# Altium footprint library IR2101SPBF.PcbLib: 3 footprints
Each footprint in its own frame and in the unit in brackets; x right, y up, seen from the top. Pads: shape width x height; smd on the part's side, far side on the other; paste and mask are expansions set on the pad; w line width, h text height; cw(c..) or ccw(c..) is an arc to the next point about the centre after c.
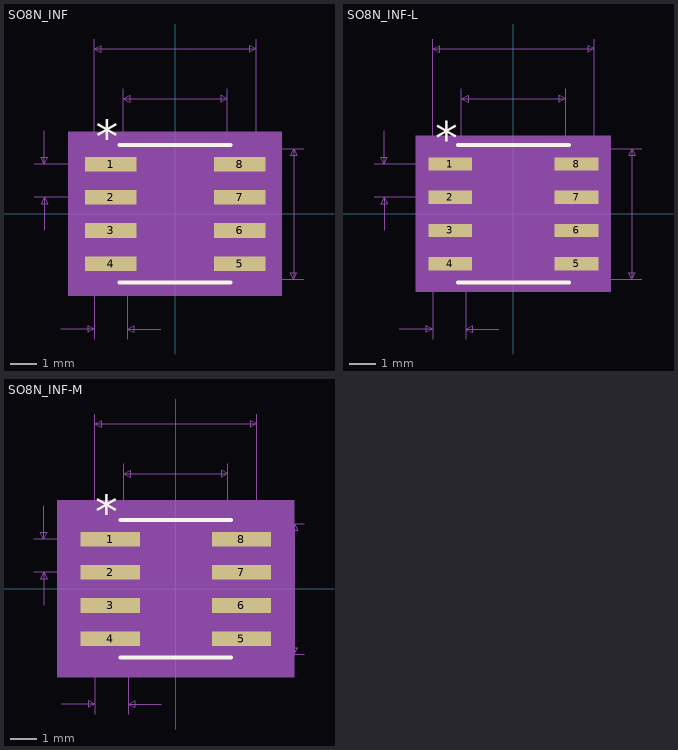
[diagram p0: the footprints below, top view; thin cyan lines are the x and y axes]

## SO8N_INF [mil]
pads (8):
  rect 77.56x21.97 smd paste+0 mask+0: 1(-97,75) 2(-97,25) 3(-97,-25) 4(-97,-75) 5(97,-75) 6(97,-25) 7(97,25) 8(97,75)
Top Overlay:
  lines w6: -83.5,-103.5 83.5,-103.5 ; -83.5,103.5 83.5,103.5
  text "*" at -119.5,91.97 h50
Mechanical 5:
  region: 160.78,-123.5 -160.78,-123.5 -160.78,123.5 160.78,123.5
Mechanical 7:
  lines w1: -212,25 -97,25 ; -212,75 -97,75 ; -197,-25 -197,25 ; -197,125 -197,75 ; -172,-173.5 -122,-173.5 ; -122,-188.5 -122,0 -122,263.5 ; -78.5,0 -78.5,188.5 ; -72,-188.5 -72,0 ; -22,-173.5 -72,-173.5 ; 0,-98.5 193.5,-98.5 ; 0,98.5 193.5,98.5 ; 78.5,0 78.5,188.5 ; 122,0 122,263.5 ; -197,25 -202,15 -192,15 -197,25 ; -197,75 -202,85 -192,85 -197,75 ; -122,-173.5 -132,-168.5 -132,-178.5 -122,-173.5 ; -122,248.5 122,248.5 ; -122,248.5 -112,253.5 -112,243.5 -122,248.5 ; -78.5,173.5 78.5,173.5 ; -78.5,173.5 -68.5,178.5 -68.5,168.5 -78.5,173.5 ; -72,-173.5 -62,-168.5 -62,-178.5 -72,-173.5 ; 78.5,173.5 68.5,178.5 68.5,168.5 78.5,173.5 ; 122,248.5 112,253.5 112,243.5 122,248.5 ; 178.5,-98.5 178.5,98.5 ; 178.5,-98.5 173.5,-88.5 183.5,-88.5 178.5,-98.5 ; 178.5,98.5 173.5,88.5 183.5,88.5 178.5,98.5
  text "Default Padstyle: r197_56" at -312.5,-298.5 h50
  text "Pin One Padstyle: r197_56" at -312.5,-358.5 h50
  text "Alt 1 Padstyle: b152_229h76" at -337.5,-538.5 h50
  text "Alt 2 Padstyle: b229_152h76" at -337.5,-598.5 h50
  text "0.157in/3.988mm" at -93.75,193.5 h25
  text "0.244in/6.198mm" at -93.75,268.5 h25
  text "0.197in/5.004mm" at 198.5,-12.5 h25
  text "0.05in/1.27mm" at -379.5,37.5 h25
  text "0.05in/1.27mm" at -178.25,-218.5 h25
Mechanical 13:
  lines w0: -12,98.5 ccw(c0,98.5) 12,98.5
  lines w1: -122,-85 -122,-65 -78.5,-65 -78.5,-85 -122,-85 ; -122,-35 -122,-15 -78.5,-15 -78.5,-35 -122,-35 ; -122,15 -122,35 -78.5,35 -78.5,15 -122,15 ; -122,65 -122,85 -78.5,85 -78.5,65 -122,65 ; -78.5,-98.5 78.5,-98.5 78.5,98.5 -78.5,98.5 -78.5,-98.5 ; 78.5,-85 78.5,-65 122,-65 122,-85 78.5,-85 ; 78.5,-35 78.5,-15 122,-15 122,-35 78.5,-35 ; 78.5,15 78.5,35 122,35 122,15 78.5,15 ; 78.5,65 78.5,85 122,85 122,65 78.5,65
  text "*" at -76,45.5 h50
Mechanical 15:
  region: -88.5,-95.98 -145.78,-95.98 -145.78,95.98 -88.5,95.98 -88.5,108.5 88.5,108.5 88.5,95.98 145.78,95.98 145.78,-95.98 88.5,-95.98 88.5,-108.5 -88.5,-108.5
  lines w6: -145.78,-95.98 -145.78,95.98 -88.5,95.98 -88.5,108.5 88.5,108.5 88.5,95.98 145.78,95.98 145.78,-95.98 88.5,-95.98 88.5,-108.5 -88.5,-108.5 -88.5,-95.98 -145.78,-95.98
3D body "SO8N_INF.step": height 69.09, standoff 0, extent -122.01,-98.5 122.01,98.5

## SO8N_INF-L [mil]
pads (8):
  rect 65.75x20 smd paste+0 mask+0: 1(-95.03,75) 2(-95.03,25) 3(-95.03,-25) 4(-95.03,-75) 5(95.03,-75) 6(95.03,-25) 7(95.03,25) 8(95.03,75)
Top Overlay:
  lines w6: -83.5,-103.5 83.5,-103.5 ; -83.5,103.5 83.5,103.5
  text "*" at -117.53,90 h50
Mechanical 5:
  region: 146.91,-117.5 -146.91,-117.5 -146.91,117.5 146.91,117.5
Mechanical 7:
  lines w1: -210.03,25 -95.03,25 ; -210.03,75 -95.03,75 ; -195.03,-25 -195.03,25 ; -195.03,125 -195.03,75 ; -172,-173.5 -122,-173.5 ; -122,-188.5 -122,0 -122,263.5 ; -78.5,0 -78.5,188.5 ; -72,-188.5 -72,0 ; -22,-173.5 -72,-173.5 ; 0,-98.5 193.5,-98.5 ; 0,98.5 193.5,98.5 ; 78.5,0 78.5,188.5 ; 122,0 122,263.5 ; -195.03,25 -200.03,15 -190.03,15 -195.03,25 ; -195.03,75 -200.03,85 -190.03,85 -195.03,75 ; -122,-173.5 -132,-168.5 -132,-178.5 -122,-173.5 ; -122,248.5 122,248.5 ; -122,248.5 -112,253.5 -112,243.5 -122,248.5 ; -78.5,173.5 78.5,173.5 ; -78.5,173.5 -68.5,178.5 -68.5,168.5 -78.5,173.5 ; -72,-173.5 -62,-168.5 -62,-178.5 -72,-173.5 ; 78.5,173.5 68.5,178.5 68.5,168.5 78.5,173.5 ; 122,248.5 112,253.5 112,243.5 122,248.5 ; 178.5,-98.5 178.5,98.5 ; 178.5,-98.5 173.5,-88.5 183.5,-88.5 178.5,-98.5 ; 178.5,98.5 173.5,88.5 183.5,88.5 178.5,98.5
  text "Default Padstyle: r167_51" at -312.5,-298.5 h50
  text "Pin One Padstyle: r167_51" at -312.5,-358.5 h50
  text "Alt 1 Padstyle: b152_229h76" at -337.5,-538.5 h50
  text "Alt 2 Padstyle: b229_152h76" at -337.5,-598.5 h50
  text "0.157in/3.988mm" at -93.75,193.5 h25
  text "0.244in/6.198mm" at -93.75,268.5 h25
  text "0.197in/5.004mm" at 198.5,-12.5 h25
  text "0.05in/1.27mm" at -377.53,37.5 h25
  text "0.05in/1.27mm" at -178.25,-218.5 h25
Mechanical 13:
  lines w0: -12,98.5 ccw(c0,98.5) 12,98.5
  lines w1: -122,-85 -122,-65 -78.5,-65 -78.5,-85 -122,-85 ; -122,-35 -122,-15 -78.5,-15 -78.5,-35 -122,-35 ; -122,15 -122,35 -78.5,35 -78.5,15 -122,15 ; -122,65 -122,85 -78.5,85 -78.5,65 -122,65 ; -78.5,-98.5 78.5,-98.5 78.5,98.5 -78.5,98.5 -78.5,-98.5 ; 78.5,-85 78.5,-65 122,-65 122,-85 78.5,-85 ; 78.5,-35 78.5,-15 122,-15 122,-35 78.5,-35 ; 78.5,15 78.5,35 122,35 122,15 78.5,15 ; 78.5,65 78.5,85 122,85 122,65 78.5,65
  text "*" at -76,45.5 h50
Mechanical 15:
  region: -82.5,-89 -131.91,-89 -131.91,89 -82.5,89 -82.5,102.5 82.5,102.5 82.5,89 131.91,89 131.91,-89 82.5,-89 82.5,-102.5 -82.5,-102.5
  lines w6: -131.91,-89 -131.91,89 -82.5,89 -82.5,102.5 82.5,102.5 82.5,89 131.91,89 131.91,-89 82.5,-89 82.5,-102.5 -82.5,-102.5 -82.5,-89 -131.91,-89
3D body "SO8N_INF.step": height 69.09, standoff 0, extent -122.01,-98.5 122.01,98.5

## SO8N_INF-M [mm]
pads (8):
  rect 2.27x0.558 smd paste+0 mask+0: 1(-2.514,1.905) 2(-2.514,0.635) 3(-2.514,-0.635) 4(-2.514,-1.905) 5(2.514,-1.905) 6(2.514,-0.635) 7(2.514,0.635) 8(2.514,1.905)
Top Overlay:
  lines w0.152: -2.121,-2.629 2.121,-2.629 ; -2.121,2.629 2.121,2.629
  text "*" at -3.085,2.336 h1.27
Mechanical 5:
  region: 4.538,-3.391 -4.538,-3.391 -4.538,3.391 4.538,3.391
Mechanical 7:
  lines w0.025: -5.435,0.635 -2.514,0.635 ; -5.435,1.905 -2.514,1.905 ; -5.054,-0.635 -5.054,0.635 ; -5.054,3.175 -5.054,1.905 ; -4.369,-4.407 -3.099,-4.407 ; -3.099,-4.788 -3.099,0 -3.099,6.693 ; -1.994,0 -1.994,4.788 ; -1.829,-4.788 -1.829,0 ; -0.559,-4.407 -1.829,-4.407 ; 0,-2.502 4.915,-2.502 ; 0,2.502 4.915,2.502 ; 1.994,0 1.994,4.788 ; 3.099,0 3.099,6.693 ; -5.054,0.635 -5.181,0.381 -4.927,0.381 -5.054,0.635 ; -5.054,1.905 -5.181,2.159 -4.927,2.159 -5.054,1.905 ; -3.099,-4.407 -3.353,-4.28 -3.353,-4.534 -3.099,-4.407 ; -3.099,6.312 3.099,6.312 ; -3.099,6.312 -2.845,6.439 -2.845,6.185 -3.099,6.312 ; -1.994,4.407 1.994,4.407 ; -1.994,4.407 -1.74,4.534 -1.74,4.28 -1.994,4.407 ; -1.829,-4.407 -1.575,-4.28 -1.575,-4.534 -1.829,-4.407 ; 1.994,4.407 1.74,4.534 1.74,4.28 1.994,4.407 ; 3.099,6.312 2.845,6.439 2.845,6.185 3.099,6.312 ; 4.534,-2.502 4.534,2.502 ; 4.534,-2.502 4.407,-2.248 4.661,-2.248 4.534,-2.502 ; 4.534,2.502 4.407,2.248 4.661,2.248 4.534,2.502
  text "Default Padstyle: r227_56" at -7.938,-7.582 h1.27
  text "Pin One Padstyle: r227_56" at -7.938,-9.106 h1.27
  text "Alt 1 Padstyle: b152_229h76" at -8.572,-13.678 h1.27
  text "Alt 2 Padstyle: b229_152h76" at -8.572,-15.202 h1.27
  text "0.157in/3.988mm" at -2.381,4.915 h0.64
  text "0.244in/6.198mm" at -2.381,6.82 h0.64
  text "0.197in/5.004mm" at 5.042,-0.318 h0.64
  text "0.05in/1.27mm" at -9.689,0.953 h0.64
  text "0.05in/1.27mm" at -4.528,-5.55 h0.64
Mechanical 13:
  lines w0: -0.305,2.502 ccw(c0,2.502) 0.305,2.502
  lines w0.025: -3.099,-2.159 -3.099,-1.651 -1.994,-1.651 -1.994,-2.159 -3.099,-2.159 ; -3.099,-0.889 -3.099,-0.381 -1.994,-0.381 -1.994,-0.889 -3.099,-0.889 ; -3.099,0.381 -3.099,0.889 -1.994,0.889 -1.994,0.381 -3.099,0.381 ; -3.099,1.651 -3.099,2.159 -1.994,2.159 -1.994,1.651 -3.099,1.651 ; -1.994,-2.502 1.994,-2.502 1.994,2.502 -1.994,2.502 -1.994,-2.502 ; 1.994,-2.159 1.994,-1.651 3.099,-1.651 3.099,-2.159 1.994,-2.159 ; 1.994,-0.889 1.994,-0.381 3.099,-0.381 3.099,-0.889 1.994,-0.889 ; 1.994,0.381 1.994,0.889 3.099,0.889 3.099,0.381 1.994,0.381 ; 1.994,1.651 1.994,2.159 3.099,2.159 3.099,1.651 1.994,1.651
  text "*" at -1.93,1.156 h1.27
Mechanical 15:
  region: -2.502,-2.692 -4.157,-2.692 -4.157,2.692 -2.502,2.692 -2.502,3.01 2.502,3.01 2.502,2.692 4.157,2.692 4.157,-2.692 2.502,-2.692 2.502,-3.01 -2.502,-3.01
  lines w0.152: -4.157,-2.692 -4.157,2.692 -2.502,2.692 -2.502,3.01 2.502,3.01 2.502,2.692 4.157,2.692 4.157,-2.692 2.502,-2.692 2.502,-3.01 -2.502,-3.01 -2.502,-2.692 -4.157,-2.692
3D body "SO8N_INF.step": height 1.76, standoff 0, extent -3.099,-2.502 3.099,2.502